# Altium schematic symbol library canbus.SchLib: 1 symbol
Pins are listed as number, name and electrical type; pins without a type are passive.

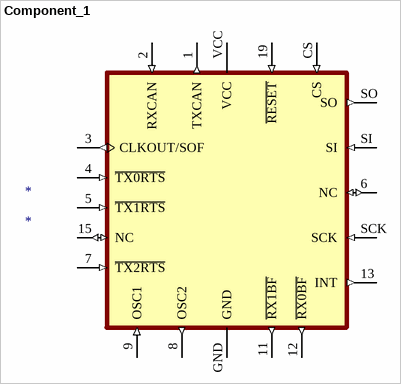
[diagram p0: symbol Component_1]

## Component_1
designator *
footprint PCBComponent_1
pins: 1 TXCAN (out), 2 RXCAN (in), 3 CLKOUT/SOF (out), 4 ~{TX0RTS} (in), 5 ~{TX1RTS} (in), 6 NC (io), 7 ~{TX2RTS} (in), 8 OSC2 (out), 9 OSC1 (in), 11 ~{RX1BF} (out), 12 ~{RX0BF} (out), 13 INT (out), 15 NC (io), 19 ~{RESET} (in), CS (in), GND (power), SCK (in), SI (in), SO (out), VCC (power)